# EAGLE library part PINHD-9 (library m_connector)
9 Pin Header
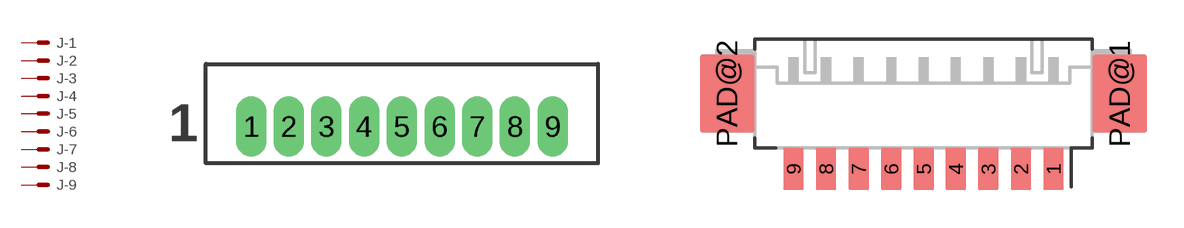
[diagram p14: symbol with the pads of MOLEX_53047-0910; footprints MOLEX_53047-0910, MOLEX_53261-0971]

Designator prefix J; gates -1=M -2=M -3=M -4=M -5=M -6=M -7=M -8=M -9=M

## PINHD-9MOLEX-PICOBLADE (MANUF: Molex; PARTNUM: 53047-0910)  [MOLEX_53047-0910]
1  -1:S  pas
2  -2:S  pas
3  -3:S  pas
4  -4:S  pas
5  -5:S  pas
6  -6:S  pas
7  -7:S  pas
8  -8:S  pas
9  -9:S  pas

## PINHD-9MOLEX-PICOBLADE-SMT-RIGHT_ANGLE  [MOLEX_53261-0971]
Pads as for MOLEX_53047-0910

## Footprint MOLEX_53047-0910 (pad centres in mm)
Molex 53047 Series, 1.25mm Pitch, 9 Conductor Molex 1.25mm pitch through hole connector. Pre tinned phosphor bronze pins, mates with 51021 series.
drill 0.5 long: 1 -5,0; 2 -3.75,0; 3 -2.5,0; 4 -1.25,0; 5 0,0; 6 1.25,0; 7 2.5,0; 8 3.75,0; 9 5,0

## Footprint MOLEX_53261-0971 (pad centres in mm)
Molex 53261 Series PicoBlade, 1.25mm Pitch, Right Angle, SMT, 9 Conductor Molex 1.25mm pitch right angle SMT connector. Pre tinned phosphor bronze pins, mates with 51021 series.
smd 0.8 x 1.6: 1 5.625,-0.8; 2 4.375,-0.8; 3 3.125,-0.8; 4 1.875,-0.8; 5 0.645,-0.8; 6 -0.605,-0.8; 7 -1.855,-0.8; 8 -3.105,-0.8; 9 -4.355,-0.8
smd 2.1 x 3: PAD@1 8.175,2.1; PAD@2 -6.905,2.1